# Altium footprint library IFBpcblib_offline.PcbLib: 137 footprints (part 2 of 9)
Each footprint in its own frame and in the unit in brackets; x right, y up, seen from the top. Pads: shape width x height; smd on the part's side, far side on the other; paste and mask are expansions set on the pad; w line width, h text height; cw(c..) or ccw(c..) is an arc to the next point about the centre after c.
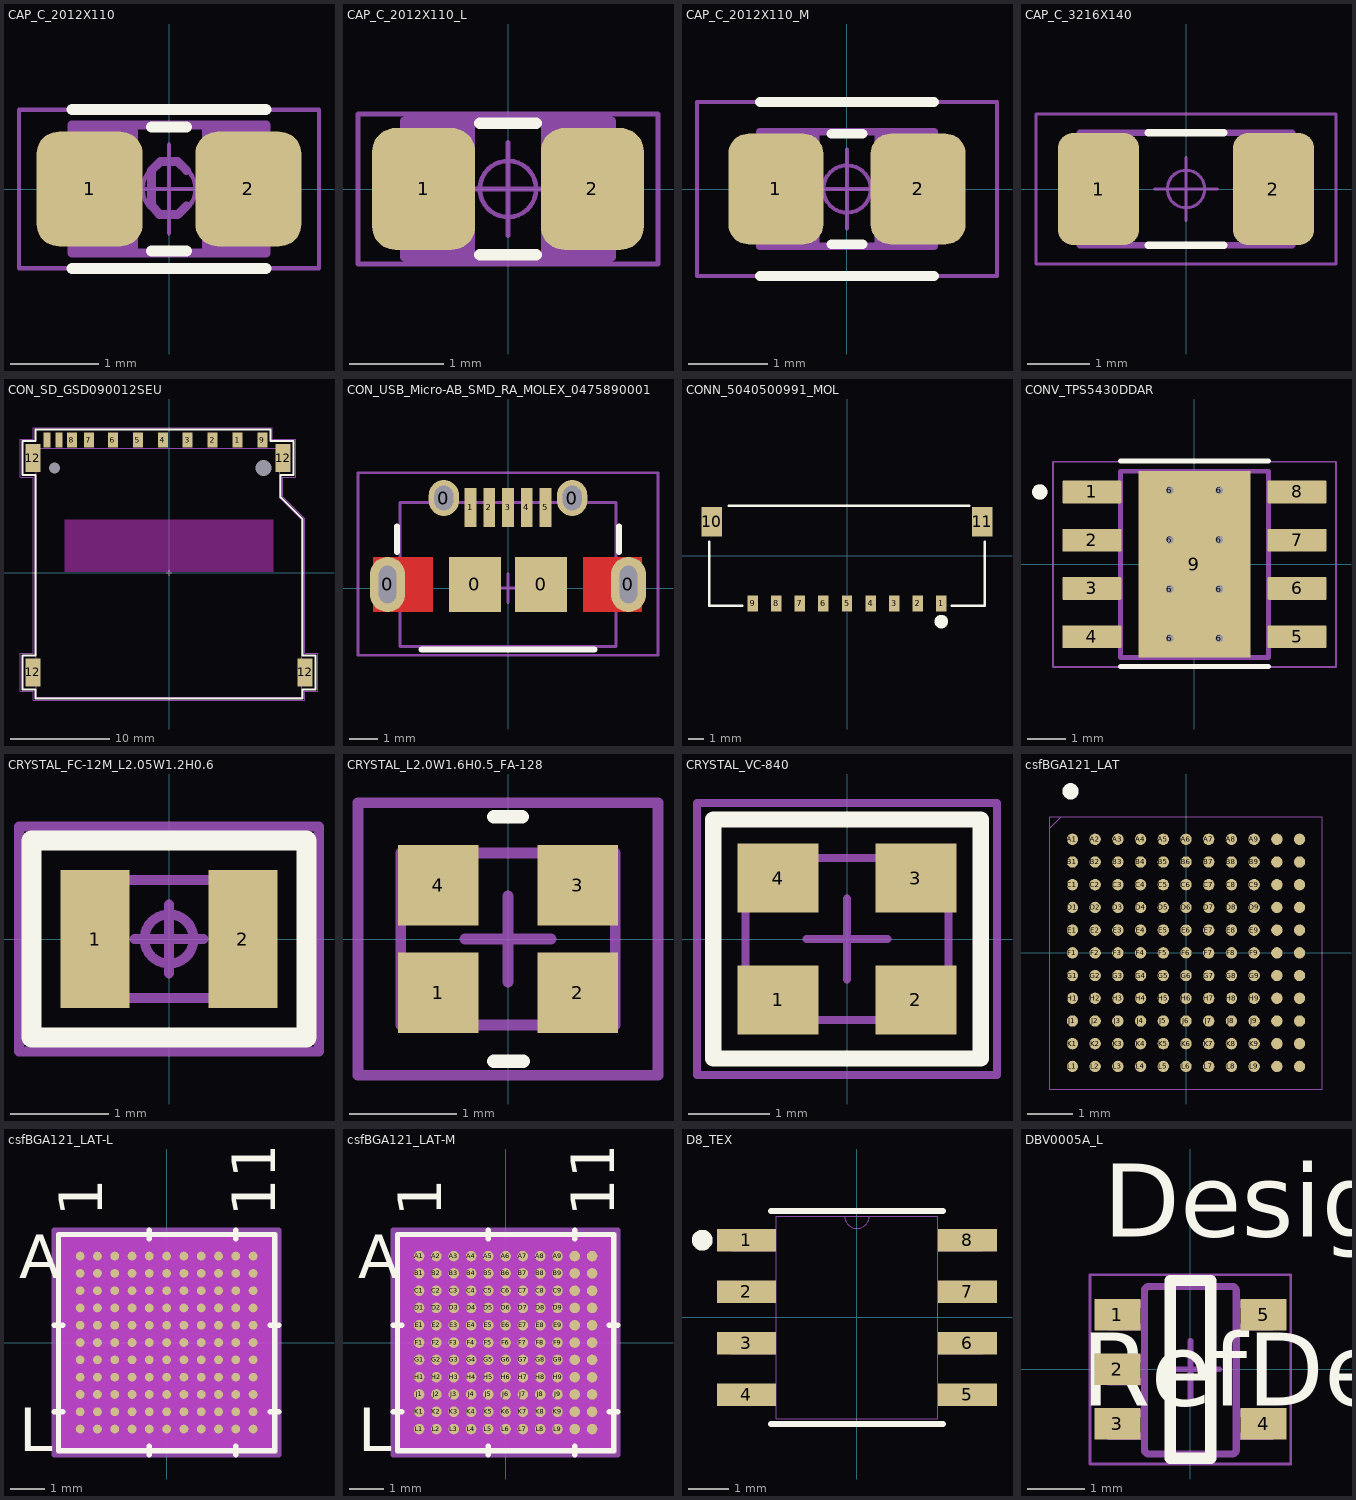
[diagram p1: the footprints below, top view; thin cyan lines are the x and y axes]

## CAP_C_2012X110 [mm] "Chip Capacitor, 2-Leads, Body 2.00x1.25mm, IPC High Density"
height 1.1
pads (2):
  rrect41% 1.2x1.3 smd: 1(-0.9,0) 2(0.9,0)
Top Overlay:
  lines w0.125: -1.1,-0.9 1.1,-0.9 ; -1.1,0.9 1.1,0.9 ; -0.2,-0.7 0.2,-0.7 ; -0.2,0.7 0.2,0.7
Top Assembly:
  lines w0.1: -1.1,-0.725 -1.1,0.725 1.1,0.725 1.1,-0.725 -1.1,-0.725
  text "'.Designator'" at -3.952,-0.622 h1.5
Top Courtyard:
  lines w0.05: -1.7,-0.9 1.7,-0.9 1.7,0.9 -1.7,0.9 -1.7,-0.9
  lines w0.1: 0.2,-0.19 0.1,-0.29 -0.11,-0.29 -0.2,-0.18 -0.2,0.21 -0.1,0.31 0.1,0.31 0.2,0.21
Top Component Outline:
  rectangle: 0.375,-0.725 1.125,0.725
  rectangle: -1.1,-0.725 -0.35,0.725
  lines w0.05: -1.1,-0.725 1.1,-0.725 1.1,0.725 -1.1,0.725 -1.1,-0.725
Top Component Center:
  circle w0.05: c0,0 r0.3
  lines w0.05: -0.5,0 0.5,0 ; 0,-0.5 0,0.5
3D body "CAPC2012X110.step": height 1.1, standoff 0, extent -1.1,-0.725 1.1,0.725

## CAP_C_2012X110_L [mm] "Chip Capacitor, 2-Leads, Body 2.00x1.25mm, IPC High Density"
height 1.1
pads (2):
  rrect45% 1.1x1.3 smd: 1(-0.9,0) 2(0.9,0)
Top Overlay:
  lines w0.125: -0.3,-0.7 0.3,-0.7 ; -0.3,0.7 0.3,0.7
Top Assembly:
  lines w0.1: -1.1,-0.725 -1.1,0.725 1.1,0.725 1.1,-0.725 -1.1,-0.725
  text "'.Designator'" at -3.952,-0.622 h1.5
Top Courtyard:
  lines w0.05: -1.6,-0.8 -1.6,0.8 1.6,0.8 1.6,-0.8 -1.6,-0.8
Top Component Outline:
  region: 1.1,0.725 0.35,0.725 0.35,-0.725 1.1,-0.725
  rectangle: -1.1,-0.725 -0.35,0.725
  lines w0.05: -1.1,-0.725 -1.1,0.725 1.1,0.725 1.1,-0.725 -1.1,-0.725
Top Component Center:
  circle w0.05: c0,0 r0.3
  lines w0.05: -0.5,0 0.5,0 ; 0,-0.5 0,0.5
3D body "CAPC2012X110_L.step": height 1.1, standoff 0, extent -1.1,-0.725 1.1,0.725

## CAP_C_2012X110_M [mm] "Chip Capacitor, 2-Leads, Body 2.00x1.25mm, IPC High Density"
height 1.1
pads (2):
  rrect41% 1.2x1.4 smd: 1(-0.9,0) 2(0.9,0)
Top Overlay:
  lines w0.125: -1.1,-1.1 1.1,-1.1 ; -1.1,1.1 1.1,1.1 ; -0.2,-0.7 0.2,-0.7 ; -0.2,0.7 0.2,0.7
Top Assembly:
  lines w0.1: -1.1,-0.725 -1.1,0.725 1.1,0.725 1.1,-0.725 -1.1,-0.725
  text "'.Designator'" at -3.952,-0.622 h1.5
Top Courtyard:
  lines w0.05: -1.9,-1.1 -1.9,1.1 1.9,1.1 1.9,-1.1 -1.9,-1.1
Top Component Outline:
  region: 1.1,0.725 0.35,0.725 0.35,-0.725 1.1,-0.725
  rectangle: -1.1,-0.725 -0.35,0.725
  lines w0.05: -1.1,-0.725 -1.1,0.725 1.1,0.725 1.1,-0.725 -1.1,-0.725
Top Component Center:
  circle w0.05: c0,0 r0.3
  lines w0.05: -0.5,0 0.5,0 ; 0,-0.5 0,0.5
3D body "CAPC2012X110_M.step": height 1.1, standoff 0, extent -1.1,-0.725 1.1,0.725

## CAP_C_3216X140 [mm] "Chip Capacitor, 2-Leads, Body 3.20x1.60mm, IPC High Density"
height 1.35
pads (2):
  rrect38% 1.3x1.8 smd: 1(-1.4,0) 2(1.4,0)
Top Overlay:
  lines w0.125: -0.6,-0.9 0.6,-0.9 ; -0.6,0.9 0.6,0.9
Top Assembly:
  lines w0.1: -1.7,-0.9 -1.7,0.9 1.7,0.9 1.7,-0.9 -1.7,-0.9
  text "'.Designator'" at -3.952,-0.622 h1.5
Top Courtyard:
  lines w0.05: -2.4,-1.2 -2.4,1.2 2.4,1.2 2.4,-1.2 -2.4,-1.2
Top Component Outline:
  rectangle: -1.7,-0.9 -0.95,0.9
  region: 1.7,0.9 0.95,0.9 0.95,-0.9 1.7,-0.9
  lines w0.05: -1.7,-0.9 1.7,-0.9 1.7,0.9 -1.7,0.9 -1.7,-0.9
Top Component Center:
  circle w0.05: c0,0 r0.3
  lines w0.05: -0.5,0 0.5,0 ; 0,-0.5 0,0.5
3D body "CAPC3216X140.step": height 1.35, standoff 0, extent -1.7,-0.9 1.7,0.9

## CON_SD_GSD090012SEU [mm]
pads (17):
  rect 1x1.5 smd mask+0.05: 1(6.875,13.3) 2(4.375,13.3) 3(1.875,13.3) 4(-0.625,13.3) 5(-3.125,13.3) 6(-5.625,13.3) 7(-8.05,13.3) 8(-9.75,13.3) 9(9.375,13.3)
  round 0 hole 1.1 unplated mask+0.05: 1.5mm(-11.5,10.5)
  round 0 hole 1.6 unplated mask+0.05: 1.5mm(9.5,10.5)
  rect 0.7x1.5 smd mask+0.05: 10(-11.05,13.3) 11(-12.25,13.3)
  rect 1.5x2.8 smd mask+0.05: 12(-13.65,-10) 12(-13.65,11.5) 12(11.45,11.5) 12(13.65,-10)
Top Layer keep-out:
  rectangle: -10.5,0.05 10.5,5.35
Top Overlay:
  lines w0.2: -14.7,-11.7 -14.7,-8.3 -13.4,-8.3 -13.4,9.8 -14.7,9.8 -14.7,13.2 -13.4,13.2 -13.4,14.35 10.175,14.35 10.175,13.2 12.5,13.2 12.5,9.8 11.2,9.8 11.2,7.55 13.4,5.35 13.4,5.3 13.4,-8.3 14.7,-8.3 14.7,-11.7 13.4,-11.7 13.4,-12.6 -13.4,-12.6 -13.4,-11.7 -14.7,-11.7
Top Assembly:
  lines w0.1: -13.3,-12.5 -13.3,12.5 11.1,12.5 11.1,7.5 13.3,5.3 13.3,-12.5 -13.3,-12.5
Top Courtyard:
  lines w0.1: -0.3,0 0.3,0 ; 0,-0.3 0,0.3 ; -14.9,-11.9 -14.9,-8.1 -13.6,-8.1 -13.6,9.6 -14.9,9.6 -14.9,13.4 -14.25,13.4 -13.6,13.4 -13.6,14.125 -13.6,14.55 10.375,14.55 10.375,13.4 12.7,13.4 12.7,9.6 11.4,9.6 11.4,7.625 11.425,7.6 13.6,5.425 13.6,-8.1 14.9,-8.1 14.9,-11.9 13.6,-11.9 13.6,-12.8 -13.6,-12.8 -13.6,-11.9 -14.9,-11.9
3D body "GSD090012SEU.stp": height 3.3, standoff -0.8, extent -14.075,-12.5 14.025,13.75

## CON_USB_Micro-AB_SMD_RA_MOLEX_0475890001 [mm] "Connector, Receptacle, Micro-USB Type AB, R/A, SMT"
height 2.96
pads (11):
  oval 1.225x1.9 hole 0.6 slot 1.3 at 90 deg: 0(-4.175,0.127) 0(4.175,0.127)
  oval 1.05x1.25 hole 0.65 slot 0.85 at 90 deg mask+0.05: 0(-2.225,3.125) 0(2.225,3.125)
  rect 1.8x1.9 smd: 0(-1.15,0.127) 0(1.15,0.127)
  rect 0.4x1.35 smd mask+0.05: 1(-1.3,2.8) 2(-0.65,2.8) 3(0,2.8) 4(0.65,2.8) 5(1.3,2.8)
Top Layer:
  rectangle: -4.675,-0.823 -2.6,1.077
  region: 4.65,1.077 2.6,1.077 2.6,-0.823 4.65,-0.823
Top Overlay:
  lines w0.2: -3.85,1.25 -3.85,2.15 ; -3,-2.125 3,-2.125 ; 3.85,1.25 3.85,2.15
  text "." at -1.524,4.191 h1
Top Assembly:
  lines w0.1: -3.75,-2.025 -3.75,2.975 3.75,2.975 3.75,-2.025 -3.75,-2.025
  text ".Designator" at -4,-0.5 h1
  text "1" at -1.5,1.775 h1
Top Courtyard:
  lines w0.1: -0.5,0 0.5,0 ; 0,-0.5 0,0.5 ; -5.2,-2.325 -5.2,4 5.2,4 5.2,-2.325 -5.2,-2.325
3D body "475890001.stp": height 2.76, standoff -0.55, extent -4.318,-2.566 4.332,3.328

## CONN_5040500991_MOL [mil]
pads (11):
  rect 26x41 smd paste+0 mask+0: 1(236.22,-120) 2(177.17,-120) 3(118.11,-120) 4(59.06,-120) 5(0,-120) 6(-59.06,-120) 7(-118.11,-120) 8(-177.17,-120) 9(-236.22,-120)
  rect 51x73 smd paste+0 mask+0: 10(-338.78,84.33) 11(338.78,84.33)
Top Overlay:
  circle w30: c236.22,-165.24 r2
  lines w6: -344.5,34.73 -344.5,-125.24 -262.32,-125.24 ; -295.78,124.76 305.78,124.76 ; 262.32,-125.24 344.5,-125.24 344.5,34.73
3D body "5040500991.stp": height 78.74, standoff 0, extent -355.31,-130 355.31,123.54

## CONV_TPS5430DDAR [mm] "IC REG BUCK ADJ 3A 8SOPWR"
pads (17):
  rrect10% 1.55x0.6 smd mask+0: 1(-2.7,1.905) 2(-2.7,0.635) 3(-2.7,-0.635) 4(-2.7,-1.905) 5(2.7,-1.905) 6(2.7,-0.635) 7(2.7,0.635) 8(2.7,1.905)
  round 0.3 hole 0.2 mask+0: 6(-0.65,-1.95) 6(-0.65,-0.65) 6(-0.65,0.65) 6(-0.65,1.95) 6(0.65,-1.95) 6(0.65,-0.65) 6(0.65,0.65) 6(0.65,1.95)
  rect 2.95x4.9 smd paste+0: 9(0,0)
Top Overlay:
  circle w0.2: c-4.07,1.905 r0.1
  lines w0.127: -1.944,-2.692 1.956,-2.692 ; -1.944,2.718 1.956,2.718
Top Paste:
  region: 1.3,-1.55 -1.3,-1.55 -1.3,1.55 1.3,1.55
Top Solder:
  drawing of 9 lines, arcs and shapes, not listed
Mechanical 13:
  circle w0.2: c-4.07,1.905 r0.1
  lines w0.127: -1.95,-2.45 -1.95,2.45 1.95,2.45 1.95,-2.45 -1.95,-2.45
Mechanical 15:
  lines w0.05: -3.725,-2.7 -3.725,2.7 3.725,2.7 3.725,-2.7 -3.725,-2.7
3D body "step_temp.STEP": height 1.7, standoff 0, extent -3,-2.45 3,2.45

## CRYSTAL_FC-12M_L2.05W1.2H0.6 [mm] "CRYSTAL 32.768KHZ 12.5PF SMD"
height 0.6
pads (2):
  rect 0.7x1.4 smd mask+0: 1(-0.75,0) 2(0.75,0)
Top Overlay:
  lines w0.2: -1.397,-1 1.397,-1 1.397,1 -1.397,1 -1.397,-1
Top Assembly:
  lines w0.1: -1.025,-0.6 -1.025,0.6 1.025,0.6 1.025,-0.6 -1.025,-0.6
Top Courtyard:
  circle w0.1: c0,0 r0.25
  lines w0.1: -0.35,0 0.35,0 ; 0,-0.35 0,0.35 ; -1.524,-1.143 1.524,-1.143 1.524,1.143 -1.524,1.143 -1.524,-1.143
Top 3D Body:
  lines w0.1: -1.025,-0.6 1.025,-0.6 1.025,0.6 -1.025,0.6 -1.025,-0.6
3D body "FC-12M 32.7680KA-A5.STEP": height 0.6, standoff 0, extent -1.025,-0.6 1.025,0.6

## CRYSTAL_L2.0W1.6H0.5_FA-128 [mm]
height 0.5
pads (4):
  rect 0.75x0.75 smd: 1(-0.65,-0.5) 2(0.65,-0.5) 3(0.65,0.5) 4(-0.65,0.5)
Top Overlay:
  lines w0.127: -0.13,-1.14 0.14,-1.14 ; -0.13,1.14 0.13,1.14
  text "." at -1.02,-1.23 h0.3
Top Assembly:
  lines w0.1: -1,-0.8 1,-0.8 1,0.8 -1,0.8 -1,-0.8
Top Courtyard:
  lines w0.1: -0.4,0 0.4,0 ; 0,-0.4 0,0.4 ; -1.397,-1.27 -1.397,1.27 1.397,1.27 1.397,-1.27 -1.397,-1.27
3D body "ABM11.step": height 0.59, standoff 0, extent -1,-0.8 1,0.8

## CRYSTAL_VC-840 [mm] "L=2.5mm, W=2.0mm, H=0.8mm"
height 0.8
pads (4):
  rect 1x0.85 smd: 1(-0.85,-0.75) 2(0.85,-0.75) 3(0.85,0.75) 4(-0.85,0.75)
Top Overlay:
  lines w0.2: -1.65,-1.475 1.65,-1.475 1.65,1.475 -1.65,1.475 -1.65,-1.475
  text "." at -1.575,-2.075 h1
Top Assembly:
  lines w0.1: -1.25,-1 1.25,-1 1.25,1 -1.25,1 -1.25,-1
Top Courtyard:
  lines w0.1: -0.5,0 0.5,0 ; 0,-0.5 0,0.5 ; -1.85,-1.675 1.85,-1.675 1.85,1.675 -1.85,1.675 -1.85,-1.675
3D body "2520_crystal.step": height 0.55, standoff 0, extent -1.3,-1.05 1.3,1.05

## csfBGA121_LAT [mm]
pads (121):
  round 0.25 smd paste+0 mask+0: A1(-2.5,2.5) A2(-2,2.5) A3(-1.5,2.5) A4(-1,2.5) A5(-0.5,2.5) A6(0,2.5) A7(0.5,2.5) A8(1,2.5) A9(1.5,2.5) A10(2,2.5) A11(2.5,2.5) B1(-2.5,2) B2(-2,2) B3(-1.5,2) B4(-1,2) B5(-0.5,2) B6(0,2) B7(0.5,2) B8(1,2) B9(1.5,2) B10(2,2) B11(2.5,2) C1(-2.5,1.5) C2(-2,1.5) C3(-1.5,1.5) C4(-1,1.5) C5(-0.5,1.5) C6(0,1.5) C7(0.5,1.5) C8(1,1.5) C9(1.5,1.5) C10(2,1.5) C11(2.5,1.5) D1(-2.5,1) D2(-2,1) D3(-1.5,1) D4(-1,1) D5(-0.5,1) D6(0,1) D7(0.5,1) D8(1,1) D9(1.5,1) D10(2,1) D11(2.5,1) E1(-2.5,0.5) E2(-2,0.5) E3(-1.5,0.5) E4(-1,0.5) E5(-0.5,0.5) E6(0,0.5) E7(0.5,0.5) E8(1,0.5) E9(1.5,0.5) E10(2,0.5) E11(2.5,0.5) F1(-2.5,0) F2(-2,0) F3(-1.5,0) F4(-1,0) F5(-0.5,0) F6(0,0) F7(0.5,0) F8(1,0) F9(1.5,0) F10(2,0) F11(2.5,0) G1(-2.5,-0.5) G2(-2,-0.5) G3(-1.5,-0.5) G4(-1,-0.5) G5(-0.5,-0.5) G6(0,-0.5) G7(0.5,-0.5) G8(1,-0.5) G9(1.5,-0.5) G10(2,-0.5) G11(2.5,-0.5) H1(-2.5,-1) H2(-2,-1) H3(-1.5,-1) H4(-1,-1) H5(-0.5,-1) H6(0,-1) H7(0.5,-1) H8(1,-1) H9(1.5,-1) H10(2,-1) H11(2.5,-1) J1(-2.5,-1.5) J2(-2,-1.5) J3(-1.5,-1.5) J4(-1,-1.5) J5(-0.5,-1.5) J6(0,-1.5) J7(0.5,-1.5) J8(1,-1.5) J9(1.5,-1.5) J10(2,-1.5) J11(2.5,-1.5) K1(-2.5,-2) K2(-2,-2) K3(-1.5,-2) K4(-1,-2) K5(-0.5,-2) K6(0,-2) K7(0.5,-2) K8(1,-2) K9(1.5,-2) K10(2,-2) K11(2.5,-2) L1(-2.5,-2.5) L2(-2,-2.5) L3(-1.5,-2.5) L4(-1,-2.5) L5(-0.5,-2.5) L6(0,-2.5) L7(0.5,-2.5) L8(1,-2.5) L9(1.5,-2.5) L10(2,-2.5) L11(2.5,-2.5)
Top Overlay:
  circle w0.254: c-2.54,3.556 r0.051
Mechanical 13:
  lines w0.025: -2.997,2.747 -2.747,2.997 ; -2.997,-2.997 2.997,-2.997 2.997,2.997 -2.997,2.997 -2.997,-2.997
3D body "csfBGA121_LAT.step": height 0.99, standoff 0, extent -2.997,-2.997 2.997,2.997

## csfBGA121_LAT-L [mil]
pads (121):
  round 10 smd paste+0 mask+0: A1(-98.43,98.43) A2(-78.74,98.43) A3(-59.06,98.43) A4(-39.37,98.43) A5(-19.68,98.43) A6(0,98.43) A7(19.68,98.43) A8(39.37,98.43) A9(59.06,98.43) A10(78.74,98.43) A11(98.43,98.43) B1(-98.43,78.74) B2(-78.74,78.74) B3(-59.06,78.74) B4(-39.37,78.74) B5(-19.68,78.74) B6(0,78.74) B7(19.68,78.74) B8(39.37,78.74) B9(59.06,78.74) B10(78.74,78.74) B11(98.43,78.74) C1(-98.43,59.06) C2(-78.74,59.06) C3(-59.06,59.06) C4(-39.37,59.06) C5(-19.68,59.06) C6(0,59.06) C7(19.68,59.06) C8(39.37,59.06) C9(59.06,59.06) C10(78.74,59.06) C11(98.43,59.06) D1(-98.43,39.37) D2(-78.74,39.37) D3(-59.06,39.37) D4(-39.37,39.37) D5(-19.68,39.37) D6(0,39.37) D7(19.68,39.37) D8(39.37,39.37) D9(59.06,39.37) D10(78.74,39.37) D11(98.43,39.37) E1(-98.43,19.68) E2(-78.74,19.68) E3(-59.06,19.68) E4(-39.37,19.68) E5(-19.68,19.68) E6(0,19.68) E7(19.68,19.68) E8(39.37,19.68) E9(59.06,19.68) E10(78.74,19.68) E11(98.43,19.68) F1(-98.43,0) F2(-78.74,0) F3(-59.06,0) F4(-39.37,0) F5(-19.68,0) F6(0,0) F7(19.68,0) F8(39.37,0) F9(59.06,0) F10(78.74,0) F11(98.43,0) G1(-98.43,-19.68) G2(-78.74,-19.68) G3(-59.06,-19.68) G4(-39.37,-19.68) G5(-19.68,-19.68) G6(0,-19.68) G7(19.68,-19.68) G8(39.37,-19.68) G9(59.06,-19.68) G10(78.74,-19.68) G11(98.43,-19.68) H1(-98.43,-39.37) H2(-78.74,-39.37) H3(-59.06,-39.37) H4(-39.37,-39.37) H5(-19.68,-39.37) H6(0,-39.37) H7(19.68,-39.37) H8(39.37,-39.37) H9(59.06,-39.37) H10(78.74,-39.37) H11(98.43,-39.37) J1(-98.43,-59.06) J2(-78.74,-59.06) J3(-59.06,-59.06) J4(-39.37,-59.06) J5(-19.68,-59.06) J6(0,-59.06) J7(19.68,-59.06) J8(39.37,-59.06) J9(59.06,-59.06) J10(78.74,-59.06) J11(98.43,-59.06) K1(-98.43,-78.74) K2(-78.74,-78.74) K3(-59.06,-78.74) K4(-39.37,-78.74) K5(-19.68,-78.74) K6(0,-78.74) K7(19.68,-78.74) K8(39.37,-78.74) K9(59.06,-78.74) K10(78.74,-78.74) K11(98.43,-78.74) L1(-98.43,-98.43) L2(-78.74,-98.43) L3(-59.06,-98.43) L4(-39.37,-98.43) L5(-19.68,-98.43) L6(0,-98.43) L7(19.68,-98.43) L8(39.37,-98.43) L9(59.06,-98.43) L10(78.74,-98.43) L11(98.43,-98.43)
Top Overlay:
  lines w6: -128,-78.74 -118,-78.74 ; -128,19.69 -118,19.69 ; -19.69,-128 -19.69,-118 ; -19.69,118 -19.69,128 ; 78.74,-128 78.74,-118 ; 78.74,118 78.74,128 ; 118,-78.74 128,-78.74 ; 118,19.69 128,19.69 ; -123,-123 123,-123 123,123 -123,123 -123,-123
  text "A" at -168,73.43 h50
  text "L" at -168,-123.43 h50
  text "1" at -73.43,143 h50
  text "11" at 123.43,143 h50
Bottom Overlay:
  text "A" at -143,73.43 h50
  text "L" at -143,-123.43 h50
  text "1" at -123.43,143 h50
  text "11" at 73.43,143 h50
Keep-Out Layer:
  region: -125.77,-125.77 -125.77,125.77 125.77,125.77 125.77,-125.77
Mechanical 13:
  lines w1: -118,108.16 -108.16,118 ; -118,-118 118,-118 118,118 -118,118 -118,-118
  text "A" at -168,73.43 h50
  text "L" at -168,-123.43 h50
  text "1" at -73.43,143 h50
  text "11" at 123.43,143 h50
Mechanical 15:
  region: 128,-128 -128,-128 -128,128 128,128
  lines w6: -128,-128 -128,128 128,128 128,-128 -128,-128
3D body "csfBGA121_LAT.step": height 39.09, standoff 0.01, extent -117.99,-117.99 117.99,117.99

## csfBGA121_LAT-M [mil]
pads (121):
  round 12 smd paste+0 mask+0: A1(-98.43,98.43) A2(-78.74,98.43) A3(-59.06,98.43) A4(-39.37,98.43) A5(-19.68,98.43) A6(0,98.43) A7(19.68,98.43) A8(39.37,98.43) A9(59.06,98.43) A10(78.74,98.43) A11(98.43,98.43) B1(-98.43,78.74) B2(-78.74,78.74) B3(-59.06,78.74) B4(-39.37,78.74) B5(-19.68,78.74) B6(0,78.74) B7(19.68,78.74) B8(39.37,78.74) B9(59.06,78.74) B10(78.74,78.74) B11(98.43,78.74) C1(-98.43,59.06) C2(-78.74,59.06) C3(-59.06,59.06) C4(-39.37,59.06) C5(-19.68,59.06) C6(0,59.06) C7(19.68,59.06) C8(39.37,59.06) C9(59.06,59.06) C10(78.74,59.06) C11(98.43,59.06) D1(-98.43,39.37) D2(-78.74,39.37) D3(-59.06,39.37) D4(-39.37,39.37) D5(-19.68,39.37) D6(0,39.37) D7(19.68,39.37) D8(39.37,39.37) D9(59.06,39.37) D10(78.74,39.37) D11(98.43,39.37) E1(-98.43,19.68) E2(-78.74,19.68) E3(-59.06,19.68) E4(-39.37,19.68) E5(-19.68,19.68) E6(0,19.68) E7(19.68,19.68) E8(39.37,19.68) E9(59.06,19.68) E10(78.74,19.68) E11(98.43,19.68) F1(-98.43,0) F2(-78.74,0) F3(-59.06,0) F4(-39.37,0) F5(-19.68,0) F6(0,0) F7(19.68,0) F8(39.37,0) F9(59.06,0) F10(78.74,0) F11(98.43,0) G1(-98.43,-19.68) G2(-78.74,-19.68) G3(-59.06,-19.68) G4(-39.37,-19.68) G5(-19.68,-19.68) G6(0,-19.68) G7(19.68,-19.68) G8(39.37,-19.68) G9(59.06,-19.68) G10(78.74,-19.68) G11(98.43,-19.68) H1(-98.43,-39.37) H2(-78.74,-39.37) H3(-59.06,-39.37) H4(-39.37,-39.37) H5(-19.68,-39.37) H6(0,-39.37) H7(19.68,-39.37) H8(39.37,-39.37) H9(59.06,-39.37) H10(78.74,-39.37) H11(98.43,-39.37) J1(-98.43,-59.06) J2(-78.74,-59.06) J3(-59.06,-59.06) J4(-39.37,-59.06) J5(-19.68,-59.06) J6(0,-59.06) J7(19.68,-59.06) J8(39.37,-59.06) J9(59.06,-59.06) J10(78.74,-59.06) J11(98.43,-59.06) K1(-98.43,-78.74) K2(-78.74,-78.74) K3(-59.06,-78.74) K4(-39.37,-78.74) K5(-19.68,-78.74) K6(0,-78.74) K7(19.68,-78.74) K8(39.37,-78.74) K9(59.06,-78.74) K10(78.74,-78.74) K11(98.43,-78.74) L1(-98.43,-98.43) L2(-78.74,-98.43) L3(-59.06,-98.43) L4(-39.37,-98.43) L5(-19.68,-98.43) L6(0,-98.43) L7(19.68,-98.43) L8(39.37,-98.43) L9(59.06,-98.43) L10(78.74,-98.43) L11(98.43,-98.43)
Top Overlay:
  lines w6: -128,-78.74 -118,-78.74 ; -128,19.69 -118,19.69 ; -19.69,-128 -19.69,-118 ; -19.69,118 -19.69,128 ; 78.74,-128 78.74,-118 ; 78.74,118 78.74,128 ; 118,-78.74 128,-78.74 ; 118,19.69 128,19.69 ; -123,-123 -123,123 123,123 123,-123 -123,-123
  text "11" at 123.43,143 h50
  text "1" at -73.43,143 h50
  text "L" at -168,-123.43 h50
  text "A" at -168,73.43 h50
Bottom Overlay:
  text "11" at 73.43,143 h50
  text "1" at -123.43,143 h50
  text "L" at -143,-123.43 h50
  text "A" at -143,73.43 h50
Keep-Out Layer:
  region: -125.77,-125.77 -125.77,125.77 125.77,125.77 125.77,-125.77
Mechanical 13:
  lines w1: -118,108.16 -108.16,118 ; -118,-118 -118,118 118,118 118,-118 -118,-118
  text "11" at 123.43,143 h50
  text "1" at -73.43,143 h50
  text "L" at -168,-123.43 h50
  text "A" at -168,73.43 h50
Mechanical 15:
  region: 128,-128 -128,-128 -128,128 128,128
  lines w6: -128,-128 128,-128 128,128 -128,128 -128,-128
3D body "csfBGA121_LAT.step": height 39.09, standoff 0.01, extent -117.99,-117.99 117.99,117.99

## D8_TEX [mil]
pads (8):
  rect 57.5x22 smd paste+0 mask+0: 1(-107.25,75) 2(-107.25,25) 3(-107.25,-25) 4(-107.25,-75) 5(107.25,-75) 6(107.25,-25) 7(107.25,25) 8(107.25,75)
Top Overlay:
  circle w10: c-150.2,75.07 r5.07
  lines w6: -83.5,-103.5 83.5,-103.5 ; -83.5,103.5 83.5,103.5
Mechanical 13:
  lines w1: -12,98.5 ccw(c0,98.5) 12,98.5 ; -122,-85 -78.5,-85 -78.5,-65 -122,-65 -122,-85 ; -122,-35 -78.5,-35 -78.5,-15 -122,-15 -122,-35 ; -122,15 -78.5,15 -78.5,35 -122,35 -122,15 ; -122,65 -78.5,65 -78.5,85 -122,85 -122,65 ; -78.5,-98.5 -78.5,98.5 78.5,98.5 78.5,-98.5 -78.5,-98.5 ; 78.5,-85 122,-85 122,-65 78.5,-65 78.5,-85 ; 78.5,-35 122,-35 122,-15 78.5,-15 78.5,-35 ; 78.5,15 122,15 122,35 78.5,35 78.5,15 ; 78.5,65 122,65 122,85 78.5,85 78.5,65
3D body "D8_TEX.step": height 69.09, standoff 0, extent -122.01,-98.5 122.01,98.5

## DBV0005A_L [mm]
pads (5):
  rect 0.8x0.55 smd paste+0 mask+0.051: 1(-1.275,0.95) 2(-1.275,0) 3(-1.275,-0.95) 4(1.275,-0.95) 5(1.275,0.95)
Top Overlay:
  lines w0.2: -0.35,-1.55 -0.35,1.55 0.35,1.55 0.35,-1.55 -0.35,-1.55
  text "RefDes" at -1.905,-0.635 h1.27
  text "Designator299" at -1.524,2.311 h1.27
Mechanical 13:
  lines w0.127: -0.801,1.371 cw(c-0.725,1.37) -0.725,1.446 ; -0.801,1.37 -0.801,1.371 ; -0.801,1.37 -0.801,-1.399 -0.801,-1.4 ccw(c-0.725,-1.399) -0.725,-1.475 ; -0.725,-1.475 0.723,-1.475 0.724,-1.475 ccw(c0.723,-1.399) 0.799,-1.4 0.799,-1.399 0.799,1.37 ; -0.725,-1.475 -0.725,-1.475 ; -0.725,1.446 -0.725,1.446 ; -0.725,1.446 0.723,1.446 0.724,1.446 cw(c0.723,1.37) 0.799,1.371 ; 0.799,1.37 0.799,1.371 ; -1.423,-1.167 -1.423,-0.767 -1.199,-0.767 -1.105,-0.767 -1.088,-0.767 -0.835,-0.767 -0.801,-0.767 -0.801,-1.167 -0.835,-1.167 -1.088,-1.167 -1.105,-1.167 -1.199,-1.167 -1.423,-1.167 ; -1.423,-0.215 -1.423,0.186 -1.199,0.186 -1.105,0.186 -1.088,0.186 -0.835,0.186 -0.801,0.186 -0.801,-0.215 -0.835,-0.215 -1.088,-0.215 -1.105,-0.215 -1.199,-0.215 -1.423,-0.215 ; -1.423,0.738 -1.423,1.138 -1.199,1.138 -1.105,1.138 -1.088,1.138 -0.835,1.138 -0.801,1.138 -0.801,0.738 -0.835,0.738 -1.088,0.738 -1.105,0.738 -1.199,0.738 -1.423,0.738 ; 0.799,-1.167 0.834,-1.167 1.087,-1.167 1.103,-1.167 1.198,-1.167 1.422,-1.167 1.422,-0.767 1.198,-0.767 1.103,-0.767 1.087,-0.767 0.834,-0.767 0.799,-0.767 0.799,-1.167 ; 0.799,0.738 0.834,0.738 1.087,0.738 1.103,0.738 1.198,0.738 1.422,0.738 1.422,1.138 1.198,1.138 1.103,1.138 1.087,1.138 0.834,1.138 0.799,1.138 0.799,0.738
Mechanical 15:
  lines w0.05: -1.75,-1.65 1.75,-1.65 1.75,1.65 -1.75,1.65 -1.75,-1.65
  lines w0.1: -0.5,0 0.5,0 ; 0,-0.5 0,0.5
3D body "DBV0005A.stp": height 1.2, standoff 0, extent -1.4,-1.45 1.4,1.45